# Altium footprint library SOT23-3P90_240X110L15X42N.PcbLib: 1 footprints
Each footprint in its own frame and in the unit in brackets; x right, y up, seen from the top. Pads: shape width x height; smd on the part's side, far side on the other; paste and mask are expansions set on the pad; w line width, h text height; cw(c..) or ccw(c..) is an arc to the next point about the centre after c.
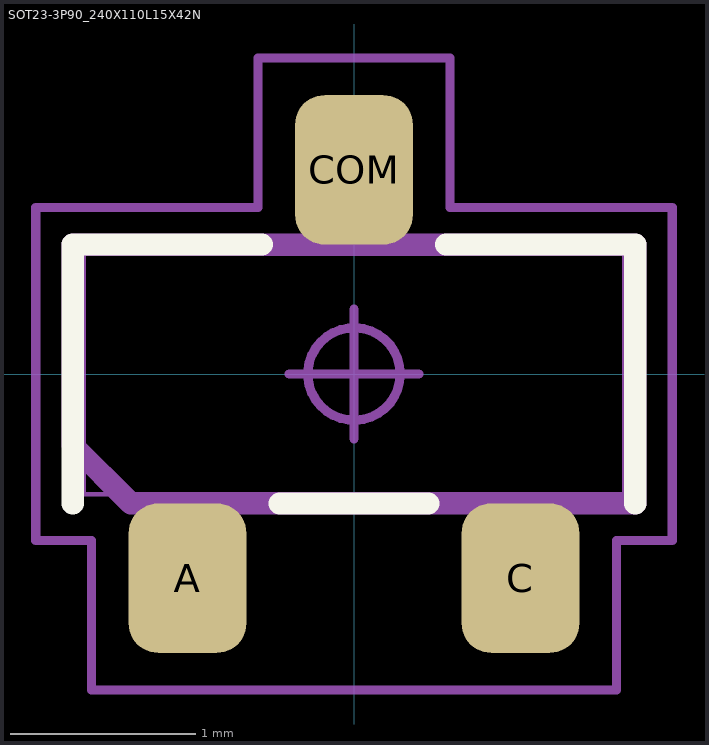
[diagram p0: the footprint, top view; thin cyan lines are the x and y axes]

## SOT23-3P90_240X110L15X42N [mm] "Small Outline Transistor, SOT-23 Type, 0.90 mm pitch; 3 pin, 2.92 mm L X 1.30 mm W X 1.10 mm H Body"
height 1.1
pads (3):
  rrect50% 0.637x0.808 smd: A(-0.9,-1.104) C(0.9,-1.104) COM(0,1.104)
Top Overlay:
  lines w0.12: -1.52,-0.7 -1.52,0.7 -0.499,0.7 ; -0.401,-0.7 0.401,-0.7 ; 0.499,0.7 1.52,0.7 1.52,-0.7
Mechanical 3:
  lines w0.12: -1.52,-0.385 -1.52,0.7 1.52,0.7 1.52,-0.7 -1.205,-0.7 -1.52,-0.385
Mechanical 5:
  lines w0.025: -1.46,-0.65 1.46,-0.65 1.46,0.65 -1.46,0.65 -1.46,-0.65 ; -1.112,-1.2 -1.112,-1.05 -0.687,-1.05 -0.687,-1.2 -1.112,-1.2 ; -0.212,1.05 -0.212,1.2 0.212,1.2 0.212,1.05 -0.212,1.05 ; 0.687,-1.2 0.687,-1.05 1.112,-1.05 1.112,-1.2 0.687,-1.2
Mechanical 7:
  circle w0.05: c0,0 r0.25
  lines w0.05: -0.35,0 0.35,0 ; 0,-0.35 0,0.35 ; -1.72,-0.9 -1.419,-0.9 -1.419,-1.708 1.419,-1.708 1.419,-0.9 1.72,-0.9 1.72,0.9 0.519,0.9 0.519,1.708 -0.519,1.708 -0.519,0.9 -1.72,0.9 -1.72,-0.9
Mechanical 9:
  text "'.Designator'" at -5.698,-0.309 h1.02
3D body "SOT23-3P90_240X110L15X42.STEP": height 1.1, standoff 0, extent -1.46,-1.2 1.46,1.2
3D body: height 1.1, standoff 0, extent -1.72,-1.708 1.72,1.708